# Altium schematic symbol library Molex Micro-Fit.SchLib: 12 symbols
Pins are listed as number, name and electrical type; pins without a type are passive.

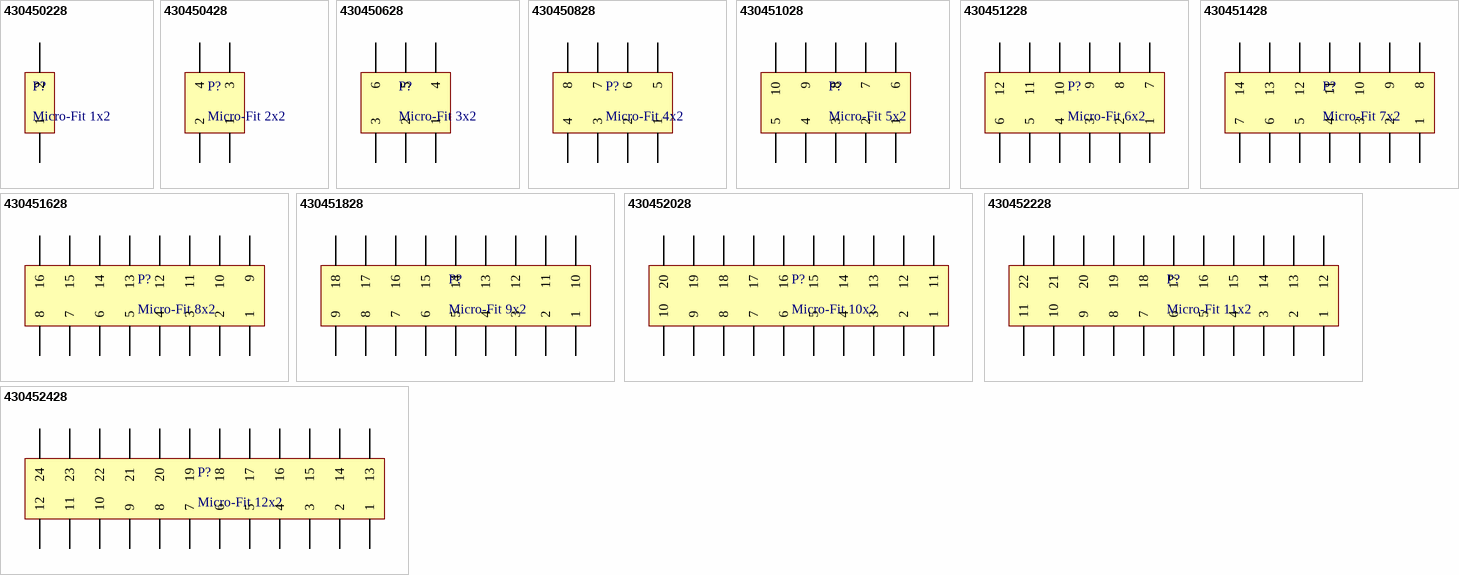
[diagram p0: symbols 430450228 to 430452428]

## 430450228
designator P?, comment Micro-Fit 1x2
pins: 1, 2

## 430450428
designator P?, comment Micro-Fit 2x2
pins: 1, 2, 3, 4

## 430450628
designator P?, comment Micro-Fit 3x2
pins: 1, 2, 3, 4, 5, 6

## 430450828
designator P?, comment Micro-Fit 4x2
pins: 1, 2, 3, 4, 5, 6, 7, 8

## 430451028
designator P?, comment Micro-Fit 5x2
pins: 1, 2, 3, 4, 5, 6, 7, 8, 9, 10

## 430451228
designator P?, comment Micro-Fit 6x2
pins: 1, 2, 3, 4, 5, 6, 7, 8, 9, 10, 11, 12

## 430451428
designator P?, comment Micro-Fit 7x2
pins: 1, 2, 3, 4, 5, 6, 7, 8, 9, 10, 11, 12, 13, 14

## 430451628
designator P?, comment Micro-Fit 8x2
pins: 1, 2, 3, 4, 5, 6, 7, 8, 9, 10, 11, 12, 13, 14, 15, 16

## 430451828
designator P?, comment Micro-Fit 9x2
pins: 1, 2, 3, 4, 5, 6, 7, 8, 9, 10, 11, 12, 13, 14, 15, 16, 17, 18

## 430452028
designator P?, comment Micro-Fit 10x2
pins: 1, 2, 3, 4, 5, 6, 7, 8, 9, 10, 11, 12, 13, 14, 15, 16, 17, 18, 19, 20

## 430452228
designator P?, comment Micro-Fit 11x2
pins: 1, 2, 3, 4, 5, 6, 7, 8, 9, 10, 11, 12, 13, 14, 15, 16, 17, 18, 19, 20, 21, 22

## 430452428
designator P?, comment Micro-Fit 12x2
pins: 1, 2, 3, 4, 5, 6, 7, 8, 9, 10, 11, 12, 13, 14, 15, 16, 17, 18, 19, 20, 21, 22, 23, 24